# Altium integrated library Renesas Microcontroller H8S.IntLib: 670 symbols (part 36 of 70)
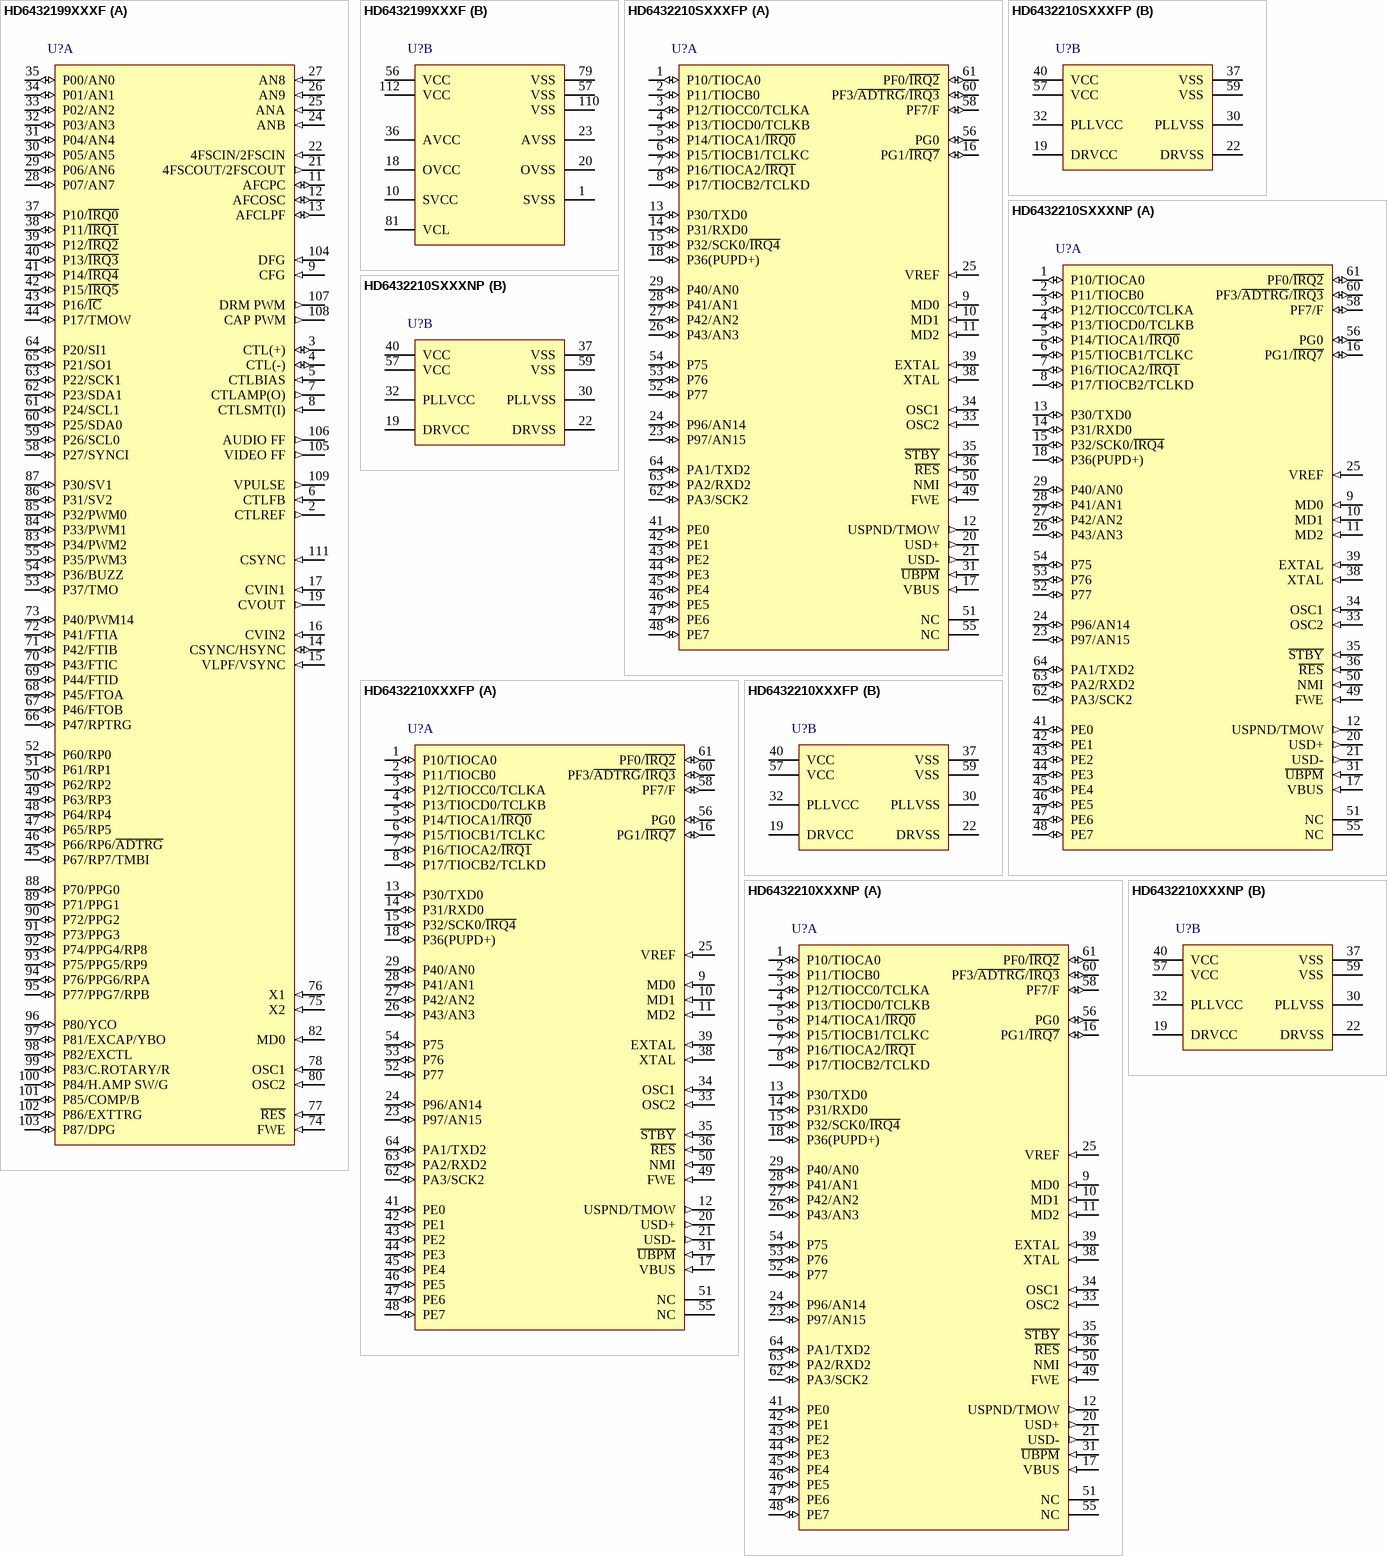
[diagram p362: symbols HD6432199XXXF to HD6432210XXXNP]

## HD6432210SXXXNP
designator U?
Mask ROM H8S/2200 Series, 2212 Group MCU, 32K ROM, 4K RAM, TNP-64B Pkg; Published: 28-Aug-2009; DatasheetVersion: Rev.7.00, Dec-2008; PackageVersion: Jun-2008; PackageReference: PVQN0064LB-A; Publisher: Altium Limited; PackageDescription: 64-Pin Plastic Very Thin QFN, 8 x 8 X 0.89 mm Body, 0.4 mm Pitch; Code_JEITA: P-VQFN64-8x8-0.40; ComponentLink1Description: Manufacturer Link; ComponentLink1URL: http://sg.renesas.com/fmwk.jsp?cnt=h8s_family_landing.jsp&fp=/products/mpumcu/h8s_family/; ComponentLink2Description: Datasheet; ComponentLink2URL: http://documentation.renesas.com/eng/products/mpumcu/rej09b0074_h8s2212.pdf; ComponentLink3Description: Packaging Specification; ComponentLink3URL: http://sg.renesas.com/media/products/common_info/package/pdf/ic/code/pvqn0064lb_a.pdf
footprint PVQN0064LB-A_N (QFN, 64-Leads, Body 8x8 mm, Pitch 0.4mm, IPC Medium Density)
footprint PVQN0064LB-A_L (QFN, 64-Leads, Body 8x8 mm, Pitch 0.4mm, IPC High Density)
footprint PVQN0064LB-A_M (QFN, 64-Leads, Body 8x8 mm, Pitch 0.4mm, IPC Low Density)
part A pins: 1 P10/TIOCA0 (io), 2 P11/TIOCB0 (io), 3 P12/TIOCC0/TCLKA (io), 4 P13/TIOCD0/TCLKB (io), 5 P14/TIOCA1/~{IRQ0} (io), 6 P15/TIOCB1/TCLKC (io), 7 P16/TIOCA2/~{IRQ1} (io), 8 P17/TIOCB2/TCLKD (io), 9 MD0 (in), 10 MD1 (in), 11 MD2 (in), 12 USPND/TMOW (out), 13 P30/TXD0 (io), 14 P31/RXD0 (io), 15 P32/SCK0/~{IRQ4} (io), 16 PG1/~{IRQ7} (io), 17 VBUS (in), 18 P36(PUPD+) (io), 20 USD+ (out), 21 USD- (out), 23 P97/AN15 (io), 24 P96/AN14 (io), 25 VREF (in), 26 P43/AN3 (io), 27 P42/AN2 (io), 28 P41/AN1 (io), 29 P40/AN0 (io), 31 ~{UBPM} (in), 33 OSC2 (in), 34 OSC1 (in), 35 ~{STBY} (in), 36 ~{RES} (in), 38 XTAL (in), 39 EXTAL (in), 41 PE0 (io), 42 PE1 (io), 43 PE2 (io), 44 PE3 (io), 45 PE4 (io), 46 PE5 (io), 47 PE6 (io), 48 PE7 (io), 49 FWE (in), 50 NMI (in), 51 NC, 52 P77 (io), 53 P76 (io), 54 P75 (io), 55 NC, 56 PG0 (io), 58 PF7/F (io), 60 PF3/~{ADTRG}/~{IRQ3} (io), 61 PF0/~{IRQ2} (io), 62 PA3/SCK2 (io), 63 PA2/RXD2 (io), 64 PA1/TXD2 (io)
part B pins: 19 DRVCC (power), 22 DRVSS (power), 30 PLLVSS (power), 32 PLLVCC (power), 37 VSS (power), 40 VCC (power), 57 VCC (power), 59 VSS (power)

## HD6432210XXXFP
designator U?
Mask ROM H8S/2200 Series, 2212 Group MCU, 32K ROM, 4K RAM, FP-64E Pkg; Published: 28-Aug-2009; DatasheetVersion: Rev.7.00, Dec-2008; PackageVersion: Sep-2005; PackageReference: PLQP0064KC-A; Publisher: Altium Limited; PackageDescription: 64-Pin Plastic Low Profile QFP, 10 x 10 x 1.45 mm Body, 0.5 mm Pitch; Code_JEITA: P-LQFP64-10x10-0.50; Code_IPC: SQFP50P1200X1200-64; ComponentLink1Description: Manufacturer Link; ComponentLink1URL: http://sg.renesas.com/fmwk.jsp?cnt=h8s_family_landing.jsp&fp=/products/mpumcu/h8s_family/; ComponentLink2Description: Datasheet; ComponentLink2URL: http://documentation.renesas.com/eng/products/mpumcu/rej09b0074_h8s2212.pdf; ComponentLink3Description: Packaging Specification; ComponentLink3URL: http://sg.renesas.com/media/products/common_info/package/pdf/ic/code/plqp0064kc_a.pdf
footprint PLQP0064KC-A_N (Shrink QFP, 64-Leads, Body 10x10mm, Pitch 0.5mm, IPC Medium Density)
footprint PLQP0064KC-A_L (Shrink QFP, 64-Leads, Body 10x10mm, Pitch 0.5mm, IPC High Density)
footprint PLQP0064KC-A_M (Shrink QFP, 64-Leads, Body 10x10mm, Pitch 0.5mm, IPC Low Density)
part A pins: 1 P10/TIOCA0 (io), 2 P11/TIOCB0 (io), 3 P12/TIOCC0/TCLKA (io), 4 P13/TIOCD0/TCLKB (io), 5 P14/TIOCA1/~{IRQ0} (io), 6 P15/TIOCB1/TCLKC (io), 7 P16/TIOCA2/~{IRQ1} (io), 8 P17/TIOCB2/TCLKD (io), 9 MD0 (in), 10 MD1 (in), 11 MD2 (in), 12 USPND/TMOW (out), 13 P30/TXD0 (io), 14 P31/RXD0 (io), 15 P32/SCK0/~{IRQ4} (io), 16 PG1/~{IRQ7} (io), 17 VBUS (in), 18 P36(PUPD+) (io), 20 USD+ (out), 21 USD- (out), 23 P97/AN15 (io), 24 P96/AN14 (io), 25 VREF (in), 26 P43/AN3 (io), 27 P42/AN2 (io), 28 P41/AN1 (io), 29 P40/AN0 (io), 31 ~{UBPM} (in), 33 OSC2 (in), 34 OSC1 (in), 35 ~{STBY} (in), 36 ~{RES} (in), 38 XTAL (in), 39 EXTAL (in), 41 PE0 (io), 42 PE1 (io), 43 PE2 (io), 44 PE3 (io), 45 PE4 (io), 46 PE5 (io), 47 PE6 (io), 48 PE7 (io), 49 FWE (in), 50 NMI (in), 51 NC, 52 P77 (io), 53 P76 (io), 54 P75 (io), 55 NC, 56 PG0 (io), 58 PF7/F (io), 60 PF3/~{ADTRG}/~{IRQ3} (io), 61 PF0/~{IRQ2} (io), 62 PA3/SCK2 (io), 63 PA2/RXD2 (io), 64 PA1/TXD2 (io)
part B pins: 19 DRVCC (power), 22 DRVSS (power), 30 PLLVSS (power), 32 PLLVCC (power), 37 VSS (power), 40 VCC (power), 57 VCC (power), 59 VSS (power)

## HD6432210XXXNP
designator U?
Mask ROM H8S/2200 Series, 2212 Group MCU, 32K ROM, 4K RAM, TNP-64B Pkg; Published: 28-Aug-2009; DatasheetVersion: Rev.7.00, Dec-2008; PackageVersion: Jun-2008; PackageReference: PVQN0064LB-A; Publisher: Altium Limited; PackageDescription: 64-Pin Plastic Very Thin QFN, 8 x 8 X 0.89 mm Body, 0.4 mm Pitch; Code_JEITA: P-VQFN64-8x8-0.40; ComponentLink1Description: Manufacturer Link; ComponentLink1URL: http://sg.renesas.com/fmwk.jsp?cnt=h8s_family_landing.jsp&fp=/products/mpumcu/h8s_family/; ComponentLink2Description: Datasheet; ComponentLink2URL: http://documentation.renesas.com/eng/products/mpumcu/rej09b0074_h8s2212.pdf; ComponentLink3Description: Packaging Specification; ComponentLink3URL: http://sg.renesas.com/media/products/common_info/package/pdf/ic/code/pvqn0064lb_a.pdf
footprint PVQN0064LB-A_N (QFN, 64-Leads, Body 8x8 mm, Pitch 0.4mm, IPC Medium Density)
footprint PVQN0064LB-A_L (QFN, 64-Leads, Body 8x8 mm, Pitch 0.4mm, IPC High Density)
footprint PVQN0064LB-A_M (QFN, 64-Leads, Body 8x8 mm, Pitch 0.4mm, IPC Low Density)
part A pins: 1 P10/TIOCA0 (io), 2 P11/TIOCB0 (io), 3 P12/TIOCC0/TCLKA (io), 4 P13/TIOCD0/TCLKB (io), 5 P14/TIOCA1/~{IRQ0} (io), 6 P15/TIOCB1/TCLKC (io), 7 P16/TIOCA2/~{IRQ1} (io), 8 P17/TIOCB2/TCLKD (io), 9 MD0 (in), 10 MD1 (in), 11 MD2 (in), 12 USPND/TMOW (out), 13 P30/TXD0 (io), 14 P31/RXD0 (io), 15 P32/SCK0/~{IRQ4} (io), 16 PG1/~{IRQ7} (io), 17 VBUS (in), 18 P36(PUPD+) (io), 20 USD+ (out), 21 USD- (out), 23 P97/AN15 (io), 24 P96/AN14 (io), 25 VREF (in), 26 P43/AN3 (io), 27 P42/AN2 (io), 28 P41/AN1 (io), 29 P40/AN0 (io), 31 ~{UBPM} (in), 33 OSC2 (in), 34 OSC1 (in), 35 ~{STBY} (in), 36 ~{RES} (in), 38 XTAL (in), 39 EXTAL (in), 41 PE0 (io), 42 PE1 (io), 43 PE2 (io), 44 PE3 (io), 45 PE4 (io), 46 PE5 (io), 47 PE6 (io), 48 PE7 (io), 49 FWE (in), 50 NMI (in), 51 NC, 52 P77 (io), 53 P76 (io), 54 P75 (io), 55 NC, 56 PG0 (io), 58 PF7/F (io), 60 PF3/~{ADTRG}/~{IRQ3} (io), 61 PF0/~{IRQ2} (io), 62 PA3/SCK2 (io), 63 PA2/RXD2 (io), 64 PA1/TXD2 (io)
part B pins: 19 DRVCC (power), 22 DRVSS (power), 30 PLLVSS (power), 32 PLLVCC (power), 37 VSS (power), 40 VCC (power), 57 VCC (power), 59 VSS (power)

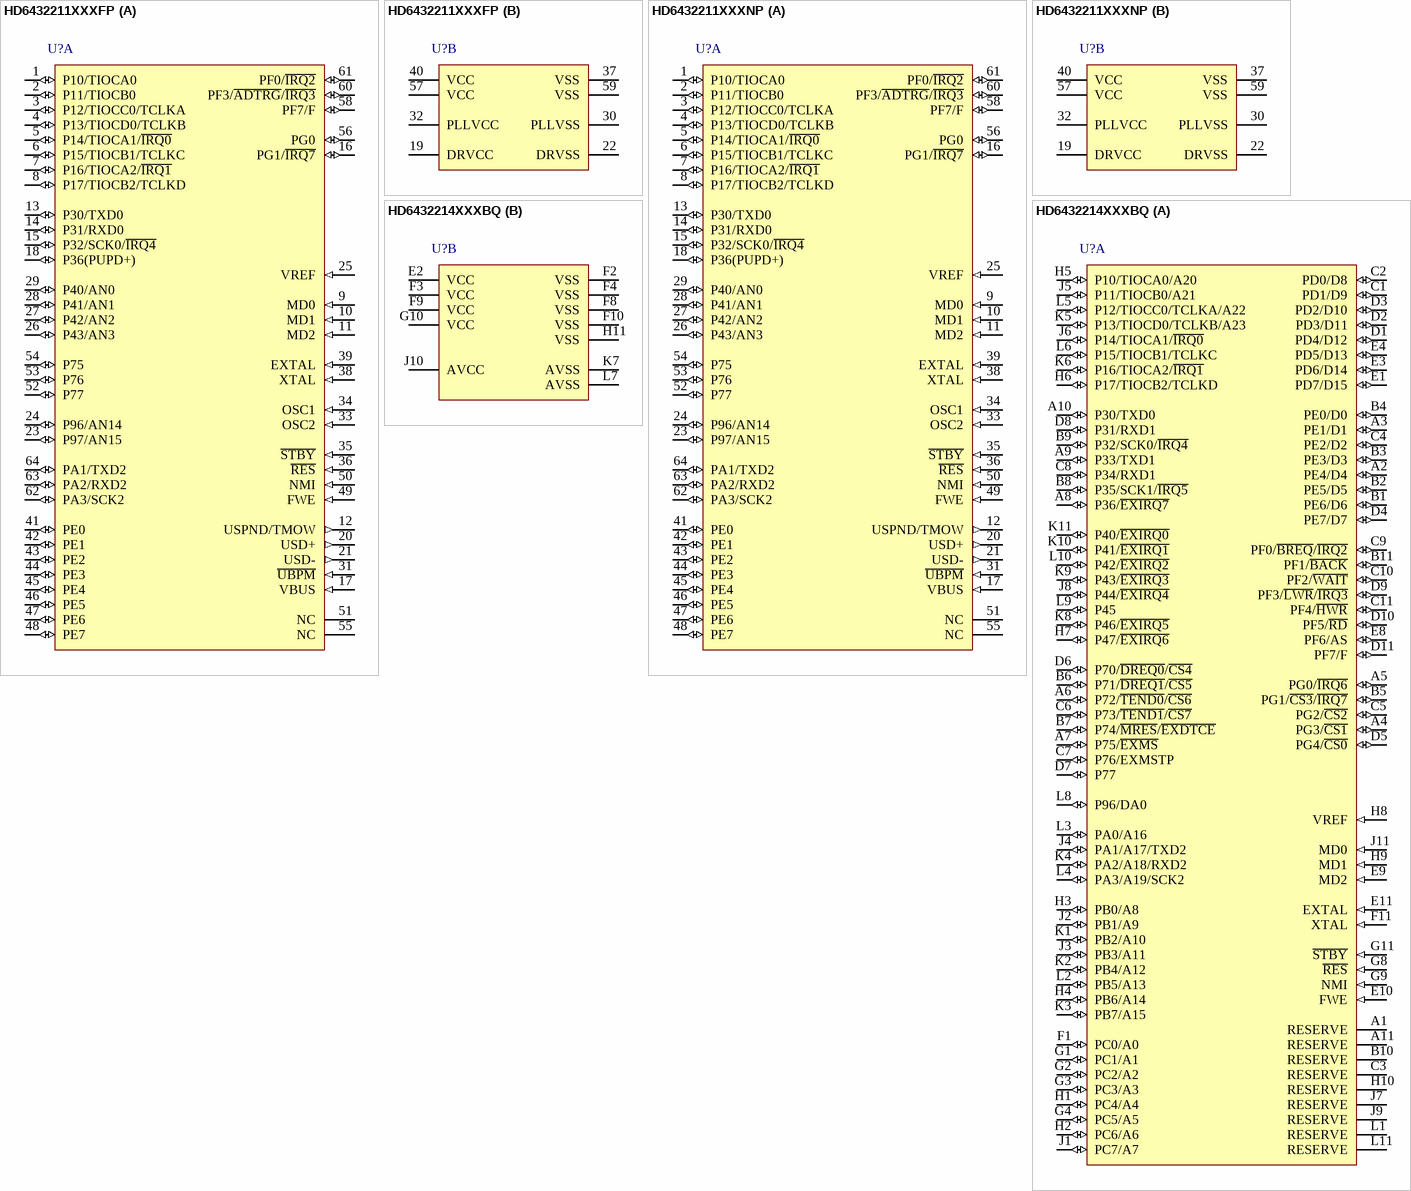
[diagram p125: symbols HD6432211XXXFP to HD6432214XXXBQ]

## HD6432211XXXFP
designator U?
Mask ROM H8S/2200 Series, 2212 Group MCU, 64K ROM, 8K RAM, FP-64E Pkg; Published: 28-Aug-2009; DatasheetVersion: Rev.7.00, Dec-2008; PackageVersion: Sep-2005; PackageReference: PLQP0064KC-A; Publisher: Altium Limited; PackageDescription: 64-Pin Plastic Low Profile QFP, 10 x 10 x 1.45 mm Body, 0.5 mm Pitch; Code_JEITA: P-LQFP64-10x10-0.50; Code_IPC: SQFP50P1200X1200-64; ComponentLink1Description: Manufacturer Link; ComponentLink1URL: http://sg.renesas.com/fmwk.jsp?cnt=h8s_family_landing.jsp&fp=/products/mpumcu/h8s_family/; ComponentLink2Description: Datasheet; ComponentLink2URL: http://documentation.renesas.com/eng/products/mpumcu/rej09b0074_h8s2212.pdf; ComponentLink3Description: Packaging Specification; ComponentLink3URL: http://sg.renesas.com/media/products/common_info/package/pdf/ic/code/plqp0064kc_a.pdf
footprint PLQP0064KC-A_N (Shrink QFP, 64-Leads, Body 10x10mm, Pitch 0.5mm, IPC Medium Density)
footprint PLQP0064KC-A_L (Shrink QFP, 64-Leads, Body 10x10mm, Pitch 0.5mm, IPC High Density)
footprint PLQP0064KC-A_M (Shrink QFP, 64-Leads, Body 10x10mm, Pitch 0.5mm, IPC Low Density)
part A pins: 1 P10/TIOCA0 (io), 2 P11/TIOCB0 (io), 3 P12/TIOCC0/TCLKA (io), 4 P13/TIOCD0/TCLKB (io), 5 P14/TIOCA1/~{IRQ0} (io), 6 P15/TIOCB1/TCLKC (io), 7 P16/TIOCA2/~{IRQ1} (io), 8 P17/TIOCB2/TCLKD (io), 9 MD0 (in), 10 MD1 (in), 11 MD2 (in), 12 USPND/TMOW (out), 13 P30/TXD0 (io), 14 P31/RXD0 (io), 15 P32/SCK0/~{IRQ4} (io), 16 PG1/~{IRQ7} (io), 17 VBUS (in), 18 P36(PUPD+) (io), 20 USD+ (out), 21 USD- (out), 23 P97/AN15 (io), 24 P96/AN14 (io), 25 VREF (in), 26 P43/AN3 (io), 27 P42/AN2 (io), 28 P41/AN1 (io), 29 P40/AN0 (io), 31 ~{UBPM} (in), 33 OSC2 (in), 34 OSC1 (in), 35 ~{STBY} (in), 36 ~{RES} (in), 38 XTAL (in), 39 EXTAL (in), 41 PE0 (io), 42 PE1 (io), 43 PE2 (io), 44 PE3 (io), 45 PE4 (io), 46 PE5 (io), 47 PE6 (io), 48 PE7 (io), 49 FWE (in), 50 NMI (in), 51 NC, 52 P77 (io), 53 P76 (io), 54 P75 (io), 55 NC, 56 PG0 (io), 58 PF7/F (io), 60 PF3/~{ADTRG}/~{IRQ3} (io), 61 PF0/~{IRQ2} (io), 62 PA3/SCK2 (io), 63 PA2/RXD2 (io), 64 PA1/TXD2 (io)
part B pins: 19 DRVCC (power), 22 DRVSS (power), 30 PLLVSS (power), 32 PLLVCC (power), 37 VSS (power), 40 VCC (power), 57 VCC (power), 59 VSS (power)

## HD6432211XXXNP
designator U?
Mask ROM H8S/2200 Series, 2212 Group MCU, 64K ROM, 8K RAM, TNP-64B Pkg; Published: 28-Aug-2009; DatasheetVersion: Rev.7.00, Dec-2008; PackageVersion: Jun-2008; PackageReference: PVQN0064LB-A; Publisher: Altium Limited; PackageDescription: 64-Pin Plastic Very Thin QFN, 8 x 8 X 0.89 mm Body, 0.4 mm Pitch; Code_JEITA: P-VQFN64-8x8-0.40; ComponentLink1Description: Manufacturer Link; ComponentLink1URL: http://sg.renesas.com/fmwk.jsp?cnt=h8s_family_landing.jsp&fp=/products/mpumcu/h8s_family/; ComponentLink2Description: Datasheet; ComponentLink2URL: http://documentation.renesas.com/eng/products/mpumcu/rej09b0074_h8s2212.pdf; ComponentLink3Description: Packaging Specification; ComponentLink3URL: http://sg.renesas.com/media/products/common_info/package/pdf/ic/code/pvqn0064lb_a.pdf
footprint PVQN0064LB-A_N (QFN, 64-Leads, Body 8x8 mm, Pitch 0.4mm, IPC Medium Density)
footprint PVQN0064LB-A_L (QFN, 64-Leads, Body 8x8 mm, Pitch 0.4mm, IPC High Density)
footprint PVQN0064LB-A_M (QFN, 64-Leads, Body 8x8 mm, Pitch 0.4mm, IPC Low Density)
part A pins: 1 P10/TIOCA0 (io), 2 P11/TIOCB0 (io), 3 P12/TIOCC0/TCLKA (io), 4 P13/TIOCD0/TCLKB (io), 5 P14/TIOCA1/~{IRQ0} (io), 6 P15/TIOCB1/TCLKC (io), 7 P16/TIOCA2/~{IRQ1} (io), 8 P17/TIOCB2/TCLKD (io), 9 MD0 (in), 10 MD1 (in), 11 MD2 (in), 12 USPND/TMOW (out), 13 P30/TXD0 (io), 14 P31/RXD0 (io), 15 P32/SCK0/~{IRQ4} (io), 16 PG1/~{IRQ7} (io), 17 VBUS (in), 18 P36(PUPD+) (io), 20 USD+ (out), 21 USD- (out), 23 P97/AN15 (io), 24 P96/AN14 (io), 25 VREF (in), 26 P43/AN3 (io), 27 P42/AN2 (io), 28 P41/AN1 (io), 29 P40/AN0 (io), 31 ~{UBPM} (in), 33 OSC2 (in), 34 OSC1 (in), 35 ~{STBY} (in), 36 ~{RES} (in), 38 XTAL (in), 39 EXTAL (in), 41 PE0 (io), 42 PE1 (io), 43 PE2 (io), 44 PE3 (io), 45 PE4 (io), 46 PE5 (io), 47 PE6 (io), 48 PE7 (io), 49 FWE (in), 50 NMI (in), 51 NC, 52 P77 (io), 53 P76 (io), 54 P75 (io), 55 NC, 56 PG0 (io), 58 PF7/F (io), 60 PF3/~{ADTRG}/~{IRQ3} (io), 61 PF0/~{IRQ2} (io), 62 PA3/SCK2 (io), 63 PA2/RXD2 (io), 64 PA1/TXD2 (io)
part B pins: 19 DRVCC (power), 22 DRVSS (power), 30 PLLVSS (power), 32 PLLVCC (power), 37 VSS (power), 40 VCC (power), 57 VCC (power), 59 VSS (power)

## HD6432214XXXBQ
designator U?
Mask ROM H8S/2200 Series, 2214 Group MCU, 128K ROM, 12K RAM, TBP-112A Pkg; Published: 28-Aug-2009; DatasheetVersion: Rev.4.00, Sep-2008; PackageVersion: Sep-2005; PackageReference: TTBG0112GA-A; Publisher: Altium Limited; PackageDescription: 112-Ball Thin Fine Pitch Ball Grid Array, 10 x 10 mm Body, 0.8 mm Pitch; Code_JEITA: T-TFBGA112-10x10-0.80; ComponentLink1Description: Manufacturer Link; ComponentLink1URL: http://sg.renesas.com/fmwk.jsp?cnt=h8s_family_landing.jsp&fp=/products/mpumcu/h8s_family/; ComponentLink2Description: Datasheet; ComponentLink2URL: http://documentation.renesas.com/eng/products/mpumcu/rej09b0189_h8s2214.pdf; ComponentLink3Description: Packaging Specification; ComponentLink3URL: http://sg.renesas.com/media/products/common_info/package/pdf/ic/code/ttbg0112ga_a.pdf
footprint TTBG0112GA-A (BGA, 112-Leads, Body 10x10mm, Pitch 0.8mm)
part A pins: A1 RESERVE, A2 PE4/D4 (io), A3 PE1/D1 (io), A4 PG3/~{CS1} (io), A5 PG0/~{IRQ6} (io), A6 P72/~{TEND0}/~{CS6} (io), A7 P75/~{EXMS} (io), A8 P36/~{EXIRQ7} (io), A9 P33/TXD1 (io), A10 P30/TXD0 (io), A11 RESERVE, B1 PE6/D6 (io), B2 PE5/D5 (io), B3 PE3/D3 (io), B4 PE0/D0 (io), B5 PG1/~{CS3}/~{IRQ7} (io), B6 P71/~{DREQ1}/~{CS5} (io), B7 P74/~{MRES}/~{EXDTCE} (io), B8 P35/SCK1/~{IRQ5} (io), B9 P32/SCK0/~{IRQ4} (io), B10 RESERVE, B11 PF1/~{BACK} (io), C1 PD1/D9 (io), C2 PD0/D8 (io), C3 RESERVE, C4 PE2/D2 (io), C5 PG2/~{CS2} (io), C6 P73/~{TEND1}/~{CS7} (io), C7 P76/EXMSTP (io), C8 P34/RXD1 (io), C9 PF0/~{BREQ}/~{IRQ2} (io), C10 PF2/~{WAIT} (io), C11 PF4/~{HWR} (io), D1 PD4/D12 (io), D2 PD3/D11 (io), D3 PD2/D10 (io), D4 PE7/D7 (io), D5 PG4/~{CS0} (io), D6 P70/~{DREQ0}/~{CS4} (io), D7 P77 (io), D8 P31/RXD1 (io), D9 PF3/~{LWR}/~{IRQ3} (io), D10 PF5/~{RD} (io), D11 PF7/F (io), E1 PD7/D15 (io), E3 PD6/D14 (io), E4 PD5/D13 (io), E8 PF6/AS (io), E9 MD2 (in), E10 FWE (in), E11 EXTAL (in), F1 PC0/A0 (io), F11 XTAL (in), G1 PC1/A1 (io), G2 PC2/A2 (io), G3 PC3/A3 (io), G4 PC5/A5 (io), G8 ~{RES} (in), G9 NMI (in), G11 ~{STBY} (in), H1 PC4/A4 (io), H2 PC6/A6 (io), H3 PB0/A8 (io), H4 PB6/A14 (io), H5 P10/TIOCA0/A20 (io), H6 P17/TIOCB2/TCLKD (io), H7 P47/~{EXIRQ6} (io), H8 VREF (in), H9 MD1 (in), H10 RESERVE, J1 PC7/A7 (io), J2 PB1/A9 (io), J3 PB3/A11 (io), J4 PA1/A17/TXD2 (io), J5 P11/TIOCB0/A21 (io), J6 P14/TIOCA1/~{IRQ0} (io), J7 RESERVE, J8 P44/~{EXIRQ4} (io), J9 RESERVE, J11 MD0 (in), K1 PB2/A10 (io), K2 PB4/A12 (io), K3 PB7/A15 (io), K4 PA2/A18/RXD2 (io), K5 P13/TIOCD0/TCLKB/A23 (io), K6 P16/TIOCA2/~{IRQ1} (io), K8 P46/~{EXIRQ5} (io), K9 P43/~{EXIRQ3} (io), K10 P41/~{EXIRQ1} (io), K11 P40/~{EXIRQ0} (io), L1 RESERVE, L2 PB5/A13 (io), L3 PA0/A16 (io), L4 PA3/A19/SCK2 (io), L5 P12/TIOCC0/TCLKA/A22 (io), L6 P15/TIOCB1/TCLKC (io), L8 P96/DA0 (io), L9 P45 (io), L10 P42/~{EXIRQ2} (io), L11 RESERVE
part B pins: E2 VCC (power), F2 VSS (power), F3 VCC (power), F4 VSS (power), F8 VSS (power), F9 VCC (power), F10 VSS (power), G10 VCC (power), H11 VSS (power), J10 AVCC (power), K7 AVSS (power), L7 AVSS (power)

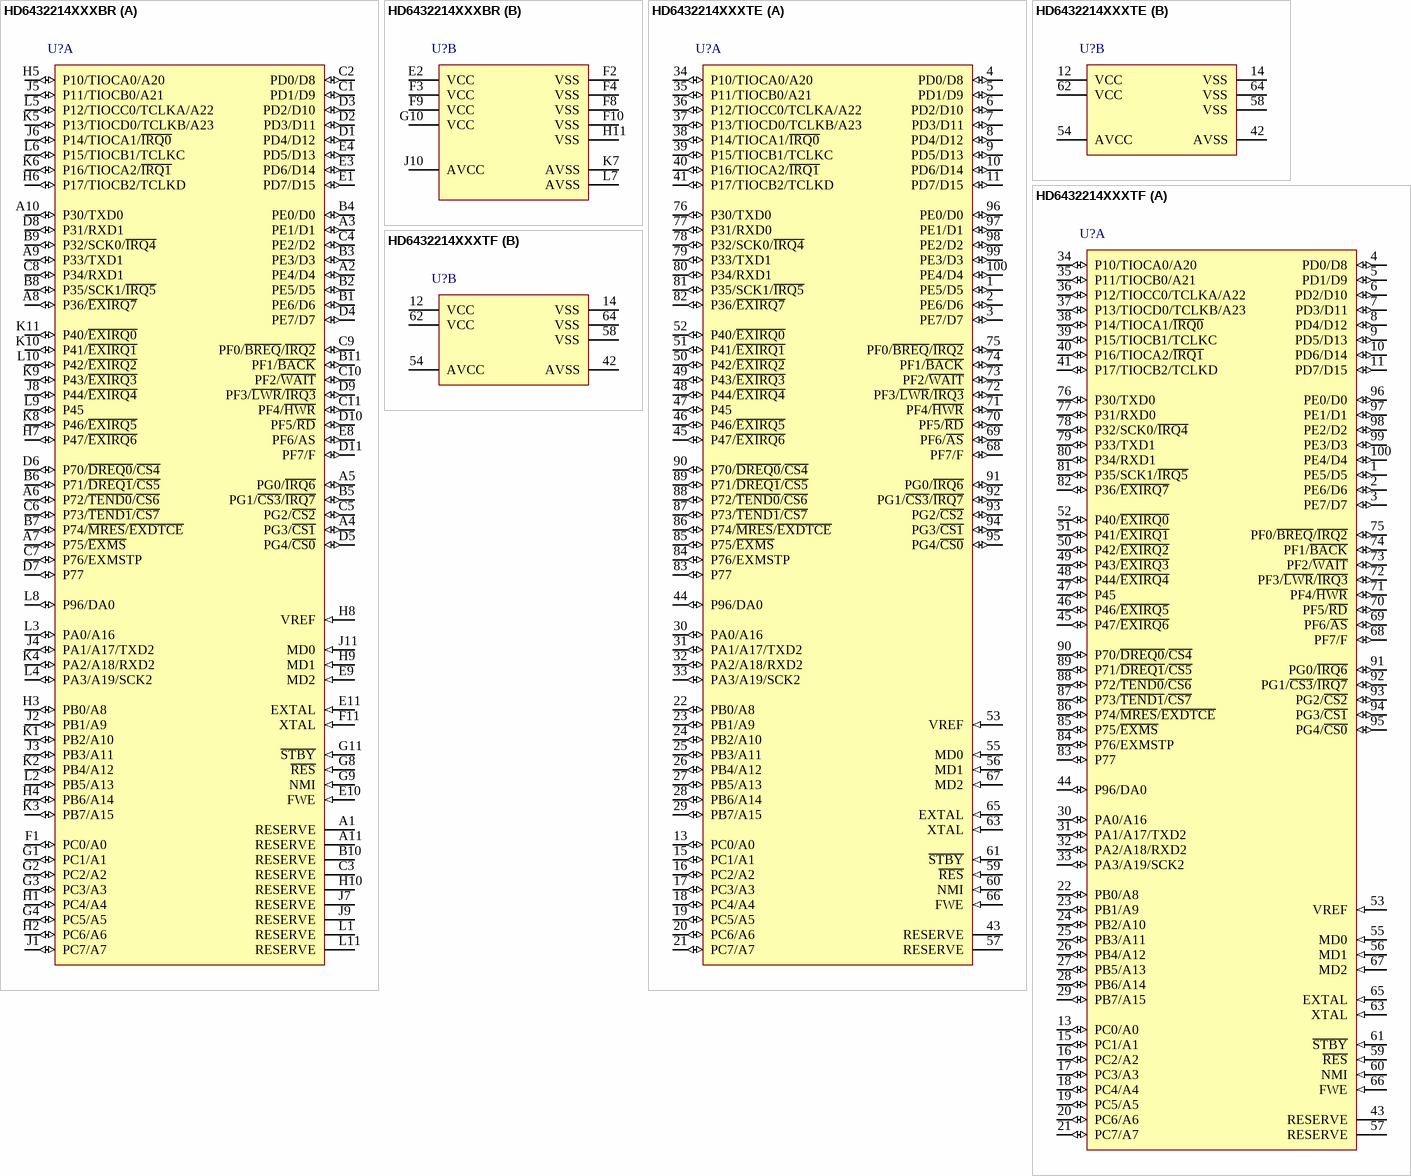
[diagram p126: symbols HD6432214XXXBR to HD6432214XXXTF]

## HD6432214XXXBR
designator U?
Mask ROM H8S/2200 Series, 2214 Group MCU, 128K ROM, 12K RAM, BP-112 Pkg; Published: 28-Aug-2009; DatasheetVersion: Rev.4.00, Sep-2008; PackageVersion: Sep-2005; PackageReference: PLBG0112GA-A; Publisher: Altium Limited; PackageDescription: 112-Ball Plastic Low Profile Thin-Fine Pitch BGA, 10 x 10 mm Body, 0.8 mm Pitch; Code_JEITA: P-LFBGA112-10x10-0.80; ComponentLink1Description: Manufacturer Link; ComponentLink1URL: http://sg.renesas.com/fmwk.jsp?cnt=h8s_family_landing.jsp&fp=/products/mpumcu/h8s_family/; ComponentLink2Description: Datasheet; ComponentLink2URL: http://documentation.renesas.com/eng/products/mpumcu/rej09b0189_h8s2214.pdf; ComponentLink3Description: Packaging Specification; ComponentLink3URL: http://sg.renesas.com/media/products/common_info/package/pdf/ic/code/plbg0112ga_a.pdf
footprint PLBG0112GA-A (BGA, 112-Leads, Body 10x10mm, Pitch 0.8mm)
part A pins: A1 RESERVE, A2 PE4/D4 (io), A3 PE1/D1 (io), A4 PG3/~{CS1} (io), A5 PG0/~{IRQ6} (io), A6 P72/~{TEND0}/~{CS6} (io), A7 P75/~{EXMS} (io), A8 P36/~{EXIRQ7} (io), A9 P33/TXD1 (io), A10 P30/TXD0 (io), A11 RESERVE, B1 PE6/D6 (io), B2 PE5/D5 (io), B3 PE3/D3 (io), B4 PE0/D0 (io), B5 PG1/~{CS3}/~{IRQ7} (io), B6 P71/~{DREQ1}/~{CS5} (io), B7 P74/~{MRES}/~{EXDTCE} (io), B8 P35/SCK1/~{IRQ5} (io), B9 P32/SCK0/~{IRQ4} (io), B10 RESERVE, B11 PF1/~{BACK} (io), C1 PD1/D9 (io), C2 PD0/D8 (io), C3 RESERVE, C4 PE2/D2 (io), C5 PG2/~{CS2} (io), C6 P73/~{TEND1}/~{CS7} (io), C7 P76/EXMSTP (io), C8 P34/RXD1 (io), C9 PF0/~{BREQ}/~{IRQ2} (io), C10 PF2/~{WAIT} (io), C11 PF4/~{HWR} (io), D1 PD4/D12 (io), D2 PD3/D11 (io), D3 PD2/D10 (io), D4 PE7/D7 (io), D5 PG4/~{CS0} (io), D6 P70/~{DREQ0}/~{CS4} (io), D7 P77 (io), D8 P31/RXD1 (io), D9 PF3/~{LWR}/~{IRQ3} (io), D10 PF5/~{RD} (io), D11 PF7/F (io), E1 PD7/D15 (io), E3 PD6/D14 (io), E4 PD5/D13 (io), E8 PF6/AS (io), E9 MD2 (in), E10 FWE (in), E11 EXTAL (in), F1 PC0/A0 (io), F11 XTAL (in), G1 PC1/A1 (io), G2 PC2/A2 (io), G3 PC3/A3 (io), G4 PC5/A5 (io), G8 ~{RES} (in), G9 NMI (in), G11 ~{STBY} (in), H1 PC4/A4 (io), H2 PC6/A6 (io), H3 PB0/A8 (io), H4 PB6/A14 (io), H5 P10/TIOCA0/A20 (io), H6 P17/TIOCB2/TCLKD (io), H7 P47/~{EXIRQ6} (io), H8 VREF (in), H9 MD1 (in), H10 RESERVE, J1 PC7/A7 (io), J2 PB1/A9 (io), J3 PB3/A11 (io), J4 PA1/A17/TXD2 (io), J5 P11/TIOCB0/A21 (io), J6 P14/TIOCA1/~{IRQ0} (io), J7 RESERVE, J8 P44/~{EXIRQ4} (io), J9 RESERVE, J11 MD0 (in), K1 PB2/A10 (io), K2 PB4/A12 (io), K3 PB7/A15 (io), K4 PA2/A18/RXD2 (io), K5 P13/TIOCD0/TCLKB/A23 (io), K6 P16/TIOCA2/~{IRQ1} (io), K8 P46/~{EXIRQ5} (io), K9 P43/~{EXIRQ3} (io), K10 P41/~{EXIRQ1} (io), K11 P40/~{EXIRQ0} (io), L1 RESERVE, L2 PB5/A13 (io), L3 PA0/A16 (io), L4 PA3/A19/SCK2 (io), L5 P12/TIOCC0/TCLKA/A22 (io), L6 P15/TIOCB1/TCLKC (io), L8 P96/DA0 (io), L9 P45 (io), L10 P42/~{EXIRQ2} (io), L11 RESERVE
part B pins: E2 VCC (power), F2 VSS (power), F3 VCC (power), F4 VSS (power), F8 VSS (power), F9 VCC (power), F10 VSS (power), G10 VCC (power), H11 VSS (power), J10 AVCC (power), K7 AVSS (power), L7 AVSS (power)